# EAGLE library part LM7372 (library parts)
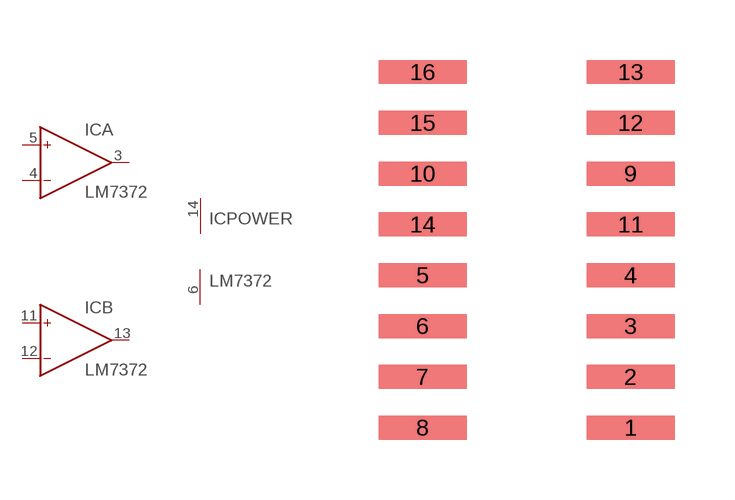
[diagram p3: symbol with the pads of SOIC16; footprint SOIC16]

Designator prefix IC; gates A=OP B=OP POWER=PWR+-

## LM7372IMA  [SOIC16]
3  A:OUT  out
4  A:IN-  in
5  A:IN+  in
6  POWER:V-  pwr
11  B:IN+  in
12  B:IN-  in
13  B:OUT  out
14  POWER:V+  pwr

## Footprint SOIC16 (pad centres in mm)
16-pin SOIC
smd 2.2 x 0.6: 1 2.6,-4.445; 2 2.6,-3.175; 3 2.6,-1.905; 4 2.6,-0.635; 5 -2.6,-0.635; 6 -2.6,-1.905; 7 -2.6,-3.175; 8 -2.6,-4.445; 9 2.6,1.905; 10 -2.6,1.905; 11 2.6,0.635; 12 2.6,3.175; 13 2.6,4.445; 14 -2.6,0.635; 15 -2.6,3.175; 16 -2.6,4.445